# Altium integrated library SQD90P04-9m4L.IntLib: 1 symbol
Pins are listed as number, name and electrical type; pins without a type are passive.

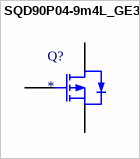
[diagram p0: symbol SQD90P04-9m4L_GE3 ]

## SQD90P04-9m4L_GE3 
designator Q?
P-Channel MOSFET; datasheet: https://www.mouser.es/datasheet/2/427/sqd90p04-9m4l-1764834.pdf; mouser link: https://www.mouser.es/ProductDetail/Vishay-Siliconix/SQD90P04-9m4L_GE3/?qs=jHkklCh7amhHMkZs7TxXMw%3D%3D; Package: TO-252
footprint TO-252-3-313
pins: 1 G, 2 D, 3 S